# EAGLE library part ADS1292 (library icarus_sensors)
TEXAS INSTRUMENTS ADS1292
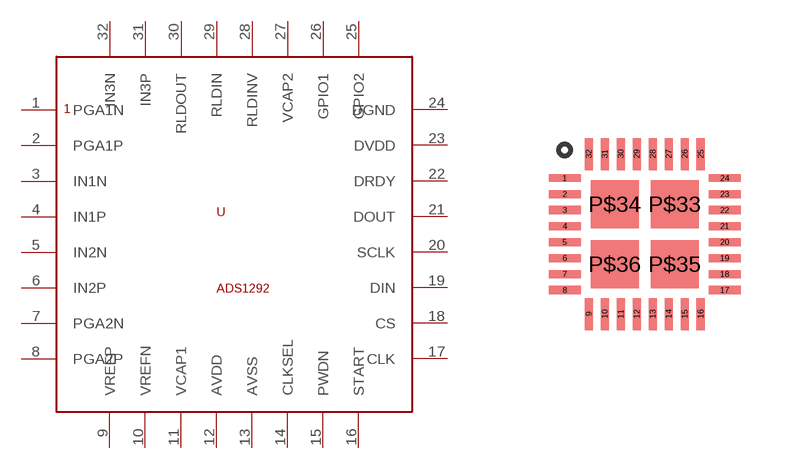
[diagram p12: symbol with the pads of QFN-32-4X4; footprint QFN-32-4X4]

Designator prefix -

## ADS1292  [QFN-32-4X4]
1  PGA1N
2  PGA1P
3  IN1N
4  IN1P
5  IN2N
6  IN2P
7  PGA2N
8  PGA2P
9  VREFP
10  VREFN
11  VCAP1
12  AVDD
13  AVSS
14  CLKSEL
15  PWDN
16  START
17  CLK
18  CS
19  DIN
20  SCLK
21  DOUT
22  DRDY
23  DVDD
24  DGND
25  GPIO2
26  GPIO1
27  VCAP2
28  RLDINV
29  RLDIN
30  RLDOUT
31  IN3P
32  IN3N

## Footprint QFN-32-4X4 (pad centres in mm)
QFN-32 4x4 package
smd 0.8 x 0.2: 1 -2,-0.6; 2 -2,-1; 3 -2,-1.4; 4 -2,-1.8; 5 -2,-2.2; 6 -2,-2.6; 7 -2,-3; 8 -2,-3.4; 17 2,-3.4; 18 2,-3; 19 2,-2.6; 20 2,-2.2; 21 2,-1.8; 22 2,-1.4; 23 2,-1; 24 2,-0.6
smd 0.2 x 0.8: 9 -1.4,-4; 10 -1,-4; 11 -0.6,-4; 12 -0.2,-4; 13 0.2,-4; 14 0.6,-4; 15 1,-4; 16 1.4,-4; 25 1.4,0; 26 1,0; 27 0.6,0; 28 0.2,0; 29 -0.2,0; 30 -0.6,0; 31 -1,0; 32 -1.4,0
smd 1.2 x 1.2: P$33 0.75,-1.25; P$34 -0.75,-1.25; P$35 0.75,-2.75; P$36 -0.75,-2.75